# EAGLE library part VERT_USB (library otamatone)
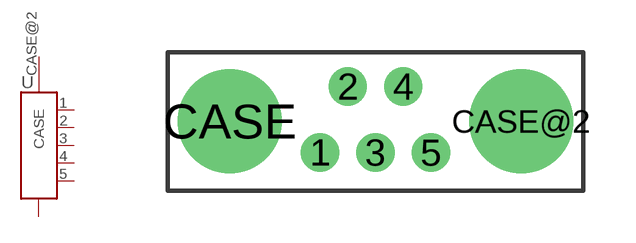
[diagram p3: symbol with the pads of TALL_BOI; footprint TALL_BOI]

Designator prefix -

## VERT_USB  [TALL_BOI]
1  1  in
2  2  in
3  3  in
4  4  in
5  5  in
CASE  CASE  in
CASE@2  CASE

## Footprint TALL_BOI (pad centres in mm)
drill 0.6: 1 -1.6,-1.9; 2 -0.8,0; 3 0,-1.9; 4 0.8,0; 5 1.6,-1.9
drill 2: CASE -4.2,-1; CASE@2 4.2,-1